# Altium footprint library Flash.PcbLib: 2 footprints
Each footprint in its own frame and in the unit in brackets; x right, y up, seen from the top. Pads: shape width x height; smd on the part's side, far side on the other; paste and mask are expansions set on the pad; w line width, h text height; cw(c..) or ccw(c..) is an arc to the next point about the centre after c.
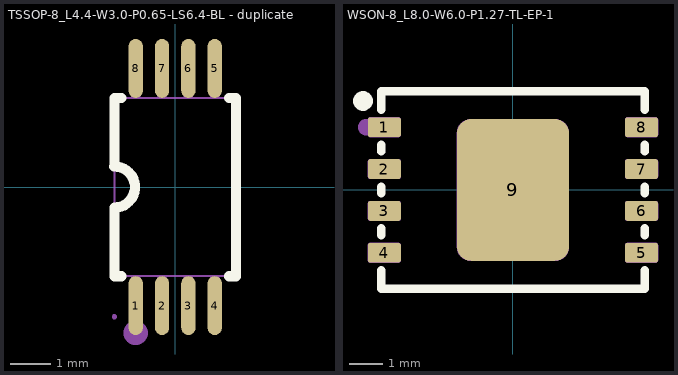
[diagram p0: the footprints below, top view; thin cyan lines are the x and y axes]

## TSSOP-8_L4.4-W3.0-P0.65-LS6.4-BL - duplicate [mm]
pads (8):
  oval 0.353x1.454 smd mask+0.051: 1(-0.975,-2.927) 2(-0.325,-2.927) 3(0.325,-2.927) 4(0.975,-2.927) 5(0.975,2.927) 6(0.325,2.927) 7(-0.325,2.927) 8(-0.975,2.927)
Top Overlay:
  lines w0.254: -1.501,0.508 cw(c-1.501,0) -1.5,-0.508 -1.5,-2.2 -1.328,-2.2 ; -1.5,0.508 -1.5,2.2 -1.328,2.2 ; 1.328,-2.2 1.5,-2.2 1.5,2.2 1.328,2.2
Mechanical 6:
  circle w0.3: c-0.975,-3.6 r0.15
Mechanical 15:
  region: -1.44,-3.2 -1.44,-3.175 -1.475,-3.14 -1.525,-3.14 -1.56,-3.175 -1.56,-3.2 -1.56,-3.225 -1.525,-3.26 -1.475,-3.26 -1.44,-3.225 -1.44,-3.2
  region: -1.085,-3.2 -1.085,-2.7 -0.865,-2.7 -0.865,-3.2
  region: -1.085,-2.71 -1.085,-2.19 -0.865,-2.19 -0.865,-2.71
  region: -0.435,-3.2 -0.435,-2.7 -0.215,-2.7 -0.215,-3.2
  region: -0.435,-2.71 -0.435,-2.19 -0.215,-2.19 -0.215,-2.71
  region: 0.215,-3.2 0.215,-2.7 0.435,-2.7 0.435,-3.2
  region: 0.215,-2.71 0.215,-2.19 0.435,-2.19 0.435,-2.71
  region: 0.865,-3.2 0.865,-2.7 1.085,-2.7 1.085,-3.2
  region: 0.865,-2.71 0.865,-2.19 1.085,-2.19 1.085,-2.71
  region: -1.085,3.2 -1.085,2.7 -0.865,2.7 -0.865,3.2
  region: -1.085,2.71 -1.085,2.19 -0.865,2.19 -0.865,2.71
  region: -0.435,3.2 -0.435,2.7 -0.215,2.7 -0.215,3.2
  region: -0.435,2.71 -0.435,2.19 -0.215,2.19 -0.215,2.71
  region: 0.215,3.2 0.215,2.7 0.435,2.7 0.435,3.2
  region: 0.215,2.71 0.215,2.19 0.435,2.19 0.435,2.71
  region: 0.865,3.2 0.865,2.7 1.085,2.7 1.085,3.2
  region: 0.865,2.71 0.865,2.19 1.085,2.19 1.085,2.71
  lines w0.051: -1.5,-2.2 -1.5,2.2 1.5,2.2 1.5,-2.2 -1.5,-2.2
3D body "TSSOP-08.stp": height 1.11, standoff 0.01, extent -1.249,-3.215 1.249,3.215

## WSON-8_L8.0-W6.0-P1.27-TL-EP-1 [mm] "WSON-8(8x6); WSON-8-EP(6x8); WSON-8; DFN-8-EP(6x8); WSON-8(6x8); WSON-8_L8.0-W6.0-P1.27-TL-EP; WSON8-6x8mm; DFN-8(6x8); WSON-8_L8.0-W6.0-P1.27-TL-EP-1; WSON8; USON-8-EP(6x8); WSON8_8X6; WSON8-8x6mm; WSON8_6X8; SON-8; WSON8-8_8X6mm; DFN6*8-8; WSON8_8X6mm; WSON-8_8x6mm"
height -909.212
pads (9):
  rrect25% 1x0.6 smd mask+0.05: 1(-3.9,1.905) 2(-3.9,0.635) 3(-3.9,-0.635) 4(-3.9,-1.905) 5(3.9,-1.905) 6(3.9,-0.635) 7(3.9,0.635) 8(3.9,1.905)
  rrect25% 3.4x4.3 smd mask+0.05: 9(0,0)
Top Overlay:
  circle w0.3: c-4.55,2.7 r0.15
  region: -3.94,3 -3.941,3.012 -3.945,3.023 -3.95,3.033 -3.958,3.042 -3.967,3.05 -3.977,3.055 -3.988,3.059 -4,3.06 -4.012,3.059 -4.023,3.055 -4.033,3.05 -4.042,3.042 -4.05,3.033 -4.055,3.023 -4.059,3.012 -4.06,3 -4.059,2.988 -4.055,2.977 -4.05,2.967 -4.042,2.958 -4.033,2.95 -4.023,2.945 -4.012,2.941 -4,2.94 -3.988,2.941 -3.977,2.945 -3.967,2.95 -3.958,2.958 -3.95,2.967 -3.945,2.977 -3.941,2.988
  lines w0.254: -4,-2.436 -4,-3 4,-3 4,-2.436 ; -4,-1.374 -4,-1.166 ; -4,-0.104 -4,0.104 ; -4,1.166 -4,1.374 ; -4,2.436 -4,3 3.95,3 ; 4,-1.374 4,-1.166 ; 4,-0.104 4,0.104 ; 4,1.166 4,1.374 ; 4,2.436 4,3
Mechanical 2:
  circle w0.254: c-4.445,1.905 r0.127
Mechanical 9:
  drawing of 9 lines, arcs and shapes, not listed
3D body "WSON-8_L8.0-W6.0-P1.27-TL-EP-1.step": height 1, standoff 0, extent -4,-3 4,3